# EAGLE library part WE-LAN_749020010A//749020011A (library wurth_elektronik_passive_rev16d)
WE-LAN LAN Transformer 10/100 Base T - Compliant with IEEE 802.3, IEEE 802.3af and IEEE 802.3at standards - SMT -- Ethernet -- Power over Ethernet -- 1 Gigabit Ethernet -- Compliant with most IC's for ethernet applications like Intel, AMD, Globespan and Realtek -- Hub, Router, Switch <http://katalog.we-online.de/media/images/v2/Family_WE-LAN.jpg> Details see: http://katalog.we-online.de/en/pbs/WE-LAN/7490100111A 2016 (C) Würth Elektronik
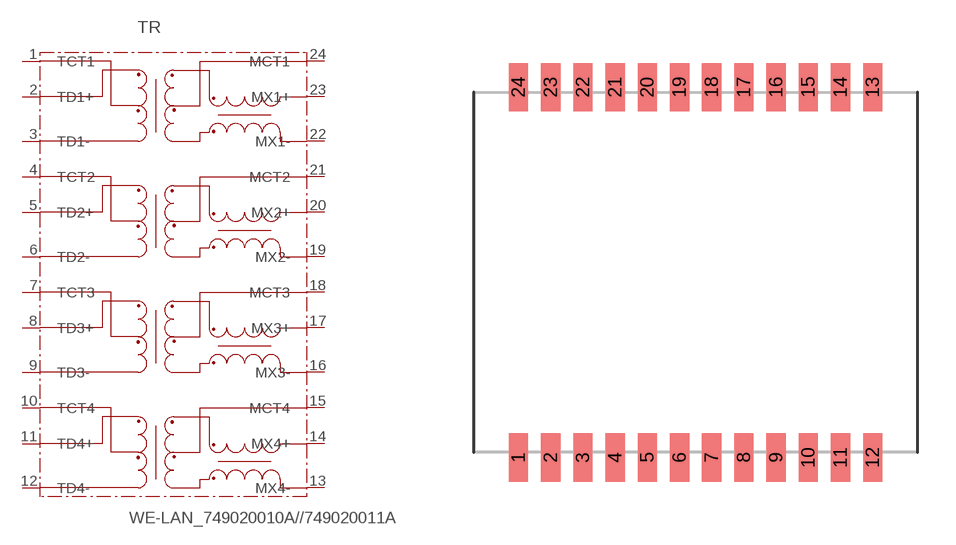
[diagram p218: symbol with the pads of 74902001XA; footprint 74902001XA]

Designator prefix TR

## WE-LAN_749020010A//749020011A"  [74902001XA]
1  TCT1
2  TD1+
3  TD1-
4  TCT2
5  TD2+
6  TD2-
7  TCT3
8  TD3+
9  TD3-
10  TCT4
11  TD4+
12  TD4-
13  MX4-
14  MX4+
15  MCT4
16  MX3-
17  MX3+
18  MCT3
19  MX2-
20  MX2+
21  MCT2
22  MX1-
23  MX1+
24  MCT1

## Footprint 74902001XA (pad centres in mm)
smd 0.76 x 1.9: 1 -6.985,-7.3; 2 -5.715,-7.3; 3 -4.445,-7.3; 4 -3.175,-7.3; 5 -1.905,-7.3; 6 -0.635,-7.3; 7 0.635,-7.3; 8 1.905,-7.3; 9 3.175,-7.3; 10 4.445,-7.3; 11 5.715,-7.3; 12 6.985,-7.3; 13 6.985,7.3; 14 5.715,7.3; 15 4.445,7.3; 16 3.175,7.3; 17 1.905,7.3; 18 0.635,7.3; 19 -0.635,7.3; 20 -1.905,7.3; 21 -3.175,7.3; 22 -4.445,7.3; 23 -5.715,7.3; 24 -6.985,7.3